# Altium schematic symbol library heatsink.SchLib: 1 symbol
Pins are listed as number, name and electrical type; pins without a type are passive.

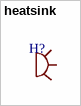
[diagram p0: symbol heatsink]

## heatsink
designator H?  (value not drawn)
footprint HS 205-20 20x33.5x12.5 mm